# EAGLE library part SW_DIP-8 (library AIC_Custom)
DIP Switch 8 Position
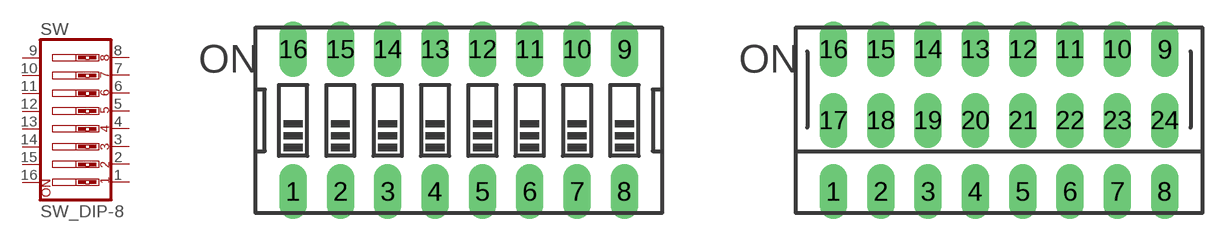
[diagram p18: symbol with the pads of DIPSWITCH-08; footprints DIPSWITCH-08, DIPSWITCH-08-JUMPERS]

Designator prefix SW

## SW_DIP-8  [DIPSWITCH-08]
1  1  pas
2  2  pas
3  3  pas
4  4  pas
5  5  pas
6  6  pas
7  7  pas
8  8  pas
9  9  pas
10  10  pas
11  11  pas
12  12  pas
13  13  pas
14  14  pas
15  15  pas
16  16  pas

## SW_DIP-8HD  [DIPSWITCH-08-JUMPERS]
1  1  pas
2  2  pas
3  3  pas
4  4  pas
5  5  pas
6  6  pas
7  7  pas
8  8  pas
9  9  pas
10  10  pas
11  11  pas
12  12  pas
13  13  pas
14  14  pas
15  15  pas
16  16  pas
17  1  pas
18  2  pas
19  3  pas
20  4  pas
21  5  pas
22  6  pas
23  7  pas
24  8  pas

## Footprint DIPSWITCH-08 (pad centres in mm)
DIP SWITCH Standard size through-hole DIP switch, 2.54 mm / 0.1" pitch Spark Fun Electronics SKU : COM-08034
drill 0.97 long: 1 -8.89,-3.81; 2 -6.35,-3.81; 3 -3.81,-3.81; 4 -1.27,-3.81; 5 1.27,-3.81; 6 3.81,-3.81; 7 6.35,-3.81; 8 8.89,-3.81; 9 8.89,3.81; 10 6.35,3.81; 11 3.81,3.81; 12 1.27,3.81; 13 -1.27,3.81; 14 -3.81,3.81; 15 -6.35,3.81; 16 -8.89,3.81

## Footprint DIPSWITCH-08-JUMPERS (pad centres in mm)
DIP SWITCH Standard size through-hole DIP switch, 2.54 mm / 0.1" pitch Additional row of pads lined to the lower row, to enable use of a 0.1" header and jumpers as an alternative on the same board
drill 0.97 long: 1 -8.89,-3.81; 2 -6.35,-3.81; 3 -3.81,-3.81; 4 -1.27,-3.81; 5 1.27,-3.81; 6 3.81,-3.81; 7 6.35,-3.81; 8 8.89,-3.81; 9 8.89,3.81; 10 6.35,3.81; 11 3.81,3.81; 12 1.27,3.81; 13 -1.27,3.81; 14 -3.81,3.81; 15 -6.35,3.81; 16 -8.89,3.81; 17 -8.89,0; 18 -6.35,0; 19 -3.81,0; 20 -1.27,0; 21 1.27,0; 22 3.81,0; 23 6.35,0; 24 8.89,0